# Altium footprint library GameManFootPrints.PcbLib: 49 footprints (part 4 of 4)
Each footprint in its own frame and in the unit in brackets; x right, y up, seen from the top. Pads: shape width x height; smd on the part's side, far side on the other; paste and mask are expansions set on the pad; w line width, h text height; cw(c..) or ccw(c..) is an arc to the next point about the centre after c.
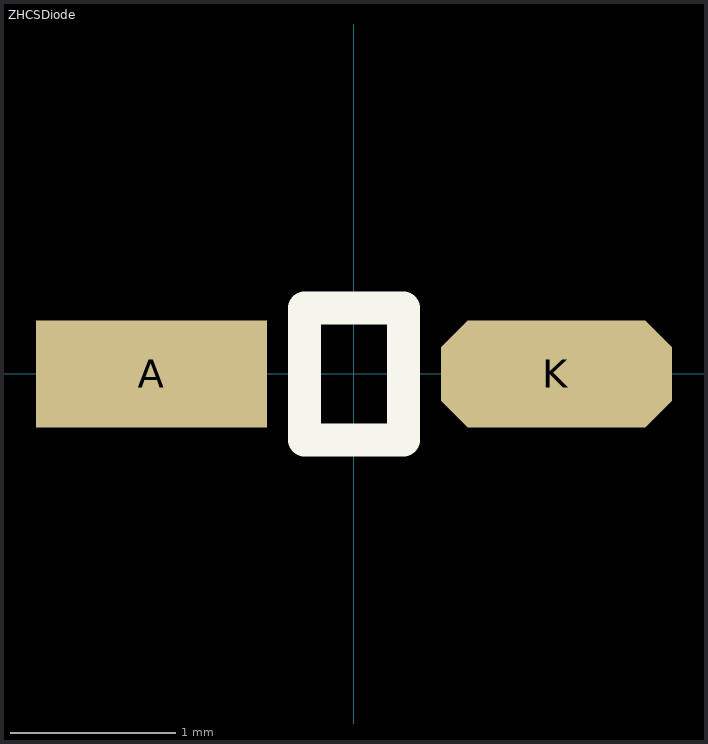
[diagram p3: the footprint, top view; thin cyan lines are the x and y axes]

## ZHCSDiode [mm]
pads (2):
  rect 1.4x0.65 smd: A(-1.225,0)
  oct 1.4x0.65 smd: K(1.225,0)
Top Overlay:
  lines w0.2: -0.3,-0.4 -0.3,0.4 0.3,0.4 0.3,-0.4 -0.3,-0.4